# EAGLE library part 691311500117 (library Wuerth_Elektronik_eiCan_Terminal_Blocks_v2.0)
WR-TBL Serie 311 - 5.08 mm Close Vertical PCB Header , 17 Pins
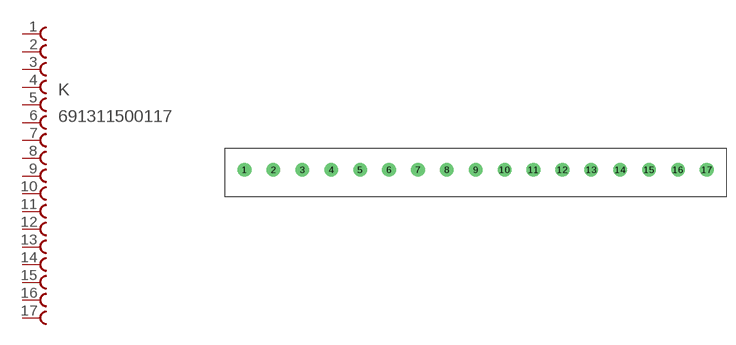
[diagram p83: symbol with the pads of 691311500117; footprint 691311500117]

Designator prefix K

## 691311500117  [691311500117]
1  1  pas
2  2  pas
3  3  pas
4  4  pas
5  5  pas
6  6  pas
7  7  pas
8  8  pas
9  9  pas
10  10  pas
11  11  pas
12  12  pas
13  13  pas
14  14  pas
15  15  pas
16  16  pas
17  17  pas

## Footprint 691311500117 (pad centres in mm)
WR-TBL Serie 311 - 5.08 mm Close Vertical PCB Header , 17 Pins
drill 1.6 round: 1 -81.28,0; 2 -76.2,0; 3 -71.12,0; 4 -66.04,0; 5 -60.96,0; 6 -55.88,0; 7 -50.8,0; 8 -45.72,0; 9 -40.64,0; 10 -35.56,0; 11 -30.48,0; 12 -25.4,0; 13 -20.32,0; 14 -15.24,0; 15 -10.16,0; 16 -5.08,0; 17 0,0